# EAGLE library part IP-BUS-F (library 000001)
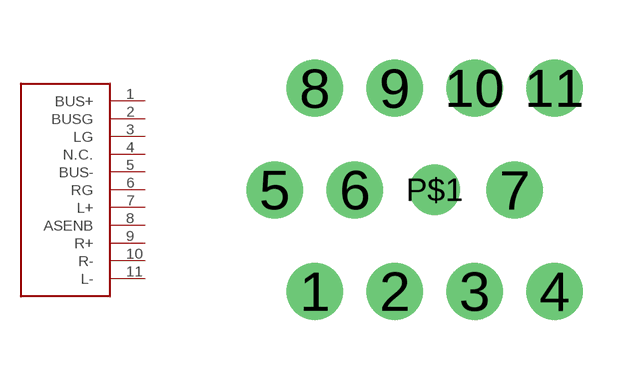
[diagram p112: symbol with the pads of IP-BUS-F; footprint IP-BUS-F]

Designator prefix -

## IP-BUS-F  [IP-BUS-F]
1  BUS+
2  BUSG
3  LG
4  N.C.
5  BUS-
6  RG
7  L+
8  ASENB
9  R+
10  R-
11  L-

## Footprint IP-BUS-F (pad centres in mm)
drill 0.5 pad 1.422 round: 1 -6,0; 2 -4,0; 3 -2,0; 4 0,0; 5 -7,2.54; 6 -5,2.54; 7 -1,2.54; 8 -6,5.08; 9 -4,5.08; 10 -2,5.08; 11 0,5.08
drill 0.5 pad 1.27 round: P$1 -3,2.54